# Altium footprint library GammaRayDetector_v1.0_2025-03-20.PcbLib: 11 footprints
Each footprint in its own frame and in the unit in brackets; x right, y up, seen from the top. Pads: shape width x height; smd on the part's side, far side on the other; paste and mask are expansions set on the pad; w line width, h text height; cw(c..) or ccw(c..) is an arc to the next point about the centre after c.
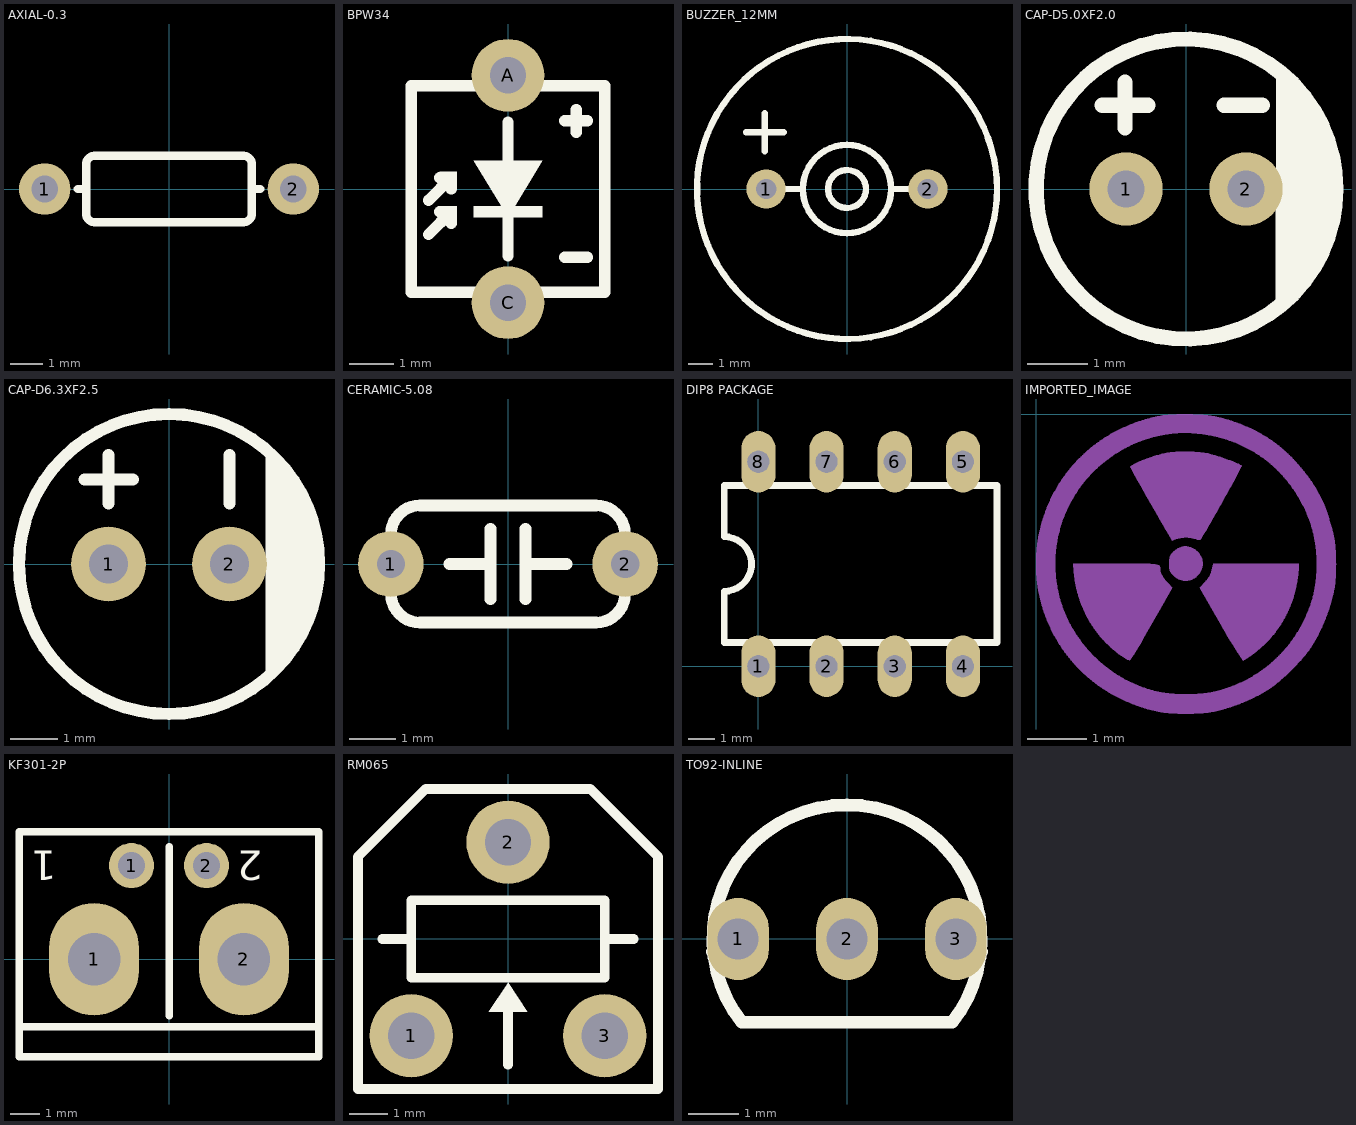
[diagram p0: the footprints below, top view; thin cyan lines are the x and y axes]

## AXIAL-0.3 [mil]
pads (2):
  round 62 hole 32 paste+0 mask+4: 1(-150,0) 2(150,0)
Top Overlay:
  lines w10: -110,0 -100,0 ; 100,0 110,0 ; -100,-30 ccw(c-90,-30) -90,-40 90,-40 ccw(c90,-30) 100,-30 100,30 ccw(c90,30) 90,40 -90,40 ccw(c-90,30) -100,30 -100,-30

## BPW34 [mil]
pads (2):
  round 64 hole 32 paste+0 mask+4: A(0,100) C(0,-100)
Top Overlay:
  region: -45,15 -45,0 -60,15
  region: -45,-15 -45,-30 -60,-15
  region: -30,-15 30,-15 30,-25 -30,-25
  region: 0,-25 -30,25 30,25
  lines w10: -70,-40 -50,-20 ; -70,-10 -50,10 ; -60,-20 -50,-20 ; -60,10 -50,10 ; -50,-30 -50,-20 ; -50,0 -50,10 ; 0,-58.9 0,58.9 ; 50,-60 70,-60 ; 50,60 70,60 ; 60,50 60,70 ; -85,-91 -85,91 85,91 85,-91 -85,-91

## BUZZER_12MM [mil]
pads (2):
  round 62 hole 32 paste+0 mask+4: 1(-128,0) 2(128,0)
Top Overlay:
  circle w10: c0,0 r237.5
  circle w10: c0,0 r30
  circle w10: c0,0 r70
  lines w10: -160,90 -100,90 ; -130,60 -130,120 ; -120,0 -70,0 ; 70,0 120,0

## CAP-D5.0XF2.0 [mil]
pads (2):
  round 48 hole 24 paste+0 mask+4: 1(-39.37,0) 2(39.37,0)
Top Overlay:
  circle w10: c0,0 r98.43
  region: 59.06,78.74 65.16,74.17 75.8,63.25 84.63,50.83 91.44,37.2 96.08,22.68 98.42,7.62 98.42,-7.62 96.08,-22.68 91.44,-37.2 84.62,-50.83 75.79,-63.25 65.15,-74.17 59.05,-78.74
  lines w10: -55,55 -25,55 ; -40,40 -40,70 ; 25,55 50,55

## CAP-D6.3XF2.5 [mil]
pads (2):
  round 62 hole 32 paste+0 mask+4: 1(-50,0) 2(50,0)
Top Overlay:
  circle w10: c0,0 r124
  region: 80,90 86.27,84.32 97.12,71.33 106.06,56.96 112.92,41.49 117.57,25.22 119.91,8.46 119.91,-8.46 117.57,-25.22 112.92,-41.49 106.06,-56.96 97.12,-71.33 86.27,-84.32 80,-90
  lines w10: -70,70 -30,70 ; -50,50 -50,90 ; 50,50 50,90

## CERAMIC-5.08 [mil]
pads (2):
  round 56 hole 24 paste+0 mask+4: 1(-100,0) 2(100,0)
Top Overlay:
  lines w10: -100,-25 ccw(c-75,-25) -75,-50 75,-50 ccw(c75,-25) 100,-25 ; -100,25 cw(c-75,25) -75,50 75,50 cw(c75,25) 100,25 ; -50,0 -15,0 ; -15,-30 -15,30 ; 15,-30 15,30 ; 15,0 50,0

## DIP8 PACKAGE [mil]
pads (8):
  oval 50x90 hole 32 slot 32.2 at 90 deg paste+0 mask+4: 1(0,0) 2(100,0) 3(200,0) 4(300,0) 5(300,300) 6(200,300) 7(100,300) 8(0,300)
Top Overlay:
  lines w10: -50,35 350,35 350,265 -50,265 -50,190 cw(c-50,150) -50,110 -50,35

## IMPORTED_IMAGE [mil]
Bottom Overlay:
  drawing of 5 lines, arcs and shapes, not listed

## KF301-2P [mil]
pads (4):
  oval 120x150 hole 70 paste+0 mask+4: 1(-100,0) 2(100,0)
  round 60 hole 36 paste+0 mask+4: 1(-50,125) 2(50,125)
Top Overlay:
  lines w10: -200,-90 200,-90 ; 0,-75 0,150 ; -200,-130 200,-130 200,170 -200,170 -200,-130
  text "2" at 125,144.69 h39.37
  text "1" at -150,144.69 h39.37

## RM065 [mil]
pads (3):
  round 86 hole 48 paste+0 mask+4: 1(-100,-100) 2(0,100) 3(100,-100)
Top Overlay:
  region: -20,-75 0,-44.96 20,-75
  lines w10: -130,0 -100,0 ; 0,-130 0,-70 ; 100,0 130,0 ; -155,-155 155,-155 155,85 85,155 -85,155 -155,85 -155,-155 ; -100,-40 -100,40 100,40 100,-40 -100,-40

## TO92-INLINE [mil]
pads (3):
  oval 48x64 hole 32 paste+0 mask+4: 1(-85,0) 2(0,0) 3(85,0)
Top Overlay:
  lines w10: -105,-10 -89,-10 ; 89,-10 105,-10 ; -82,-65 cw(c0,0) 82,-65 -82,-65